# Altium integrated library TI_Logic_Gate.IntLib: 2017 symbols (part 55 of 56)
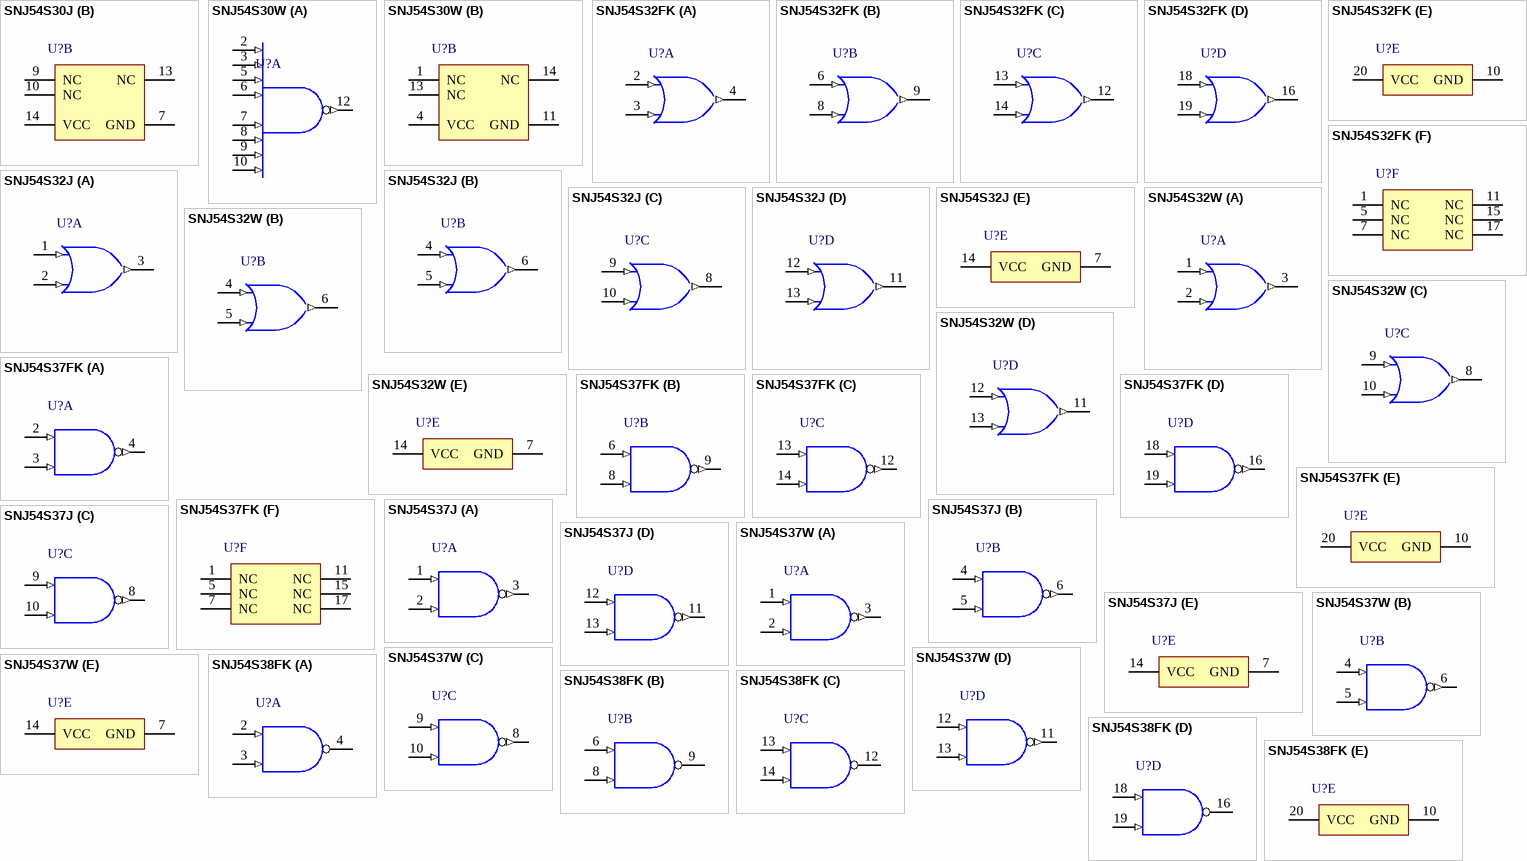
[diagram p279: symbols SNJ54S30J to SNJ54S38FK]

## SNJ54S37W
designator U?
Quadruple 2-Input Positive-NAND Buffers, W0014A, TUBE; Generic Part Number: SN54S37; Manufacturer: Texas Instruments; PartNumber: SNJ54S37W; VCC(Min)(V): 4.5; VCC(Max)(V): 5.5; Output Type: TTL; Rating: Military; Technology Family: S; Schmitt Trigger: No; DatasheetVersion: SDLS103; PackageReference: W0014A; Input Type: TTL; Operating Temperature Range(C): -55 to 125; ComponentLink1Description: Manufacturer URL; ComponentLink1URL: http://www.ti.com/; ComponentLink2Description: Datasheet; ComponentLink2URL: http://www.ti.com/lit/ds/symlink/sn54s37.pdf; ComponentLink3Description: Package Specification; ComponentLink3URL: http://www.ti.com/lit/ml/mcfp002c/mcfp002c.pdf
footprint W0014A_N (CFP, 14-Leads, Body 9.91x6.6mm, Pitch 1.27mm, IPC Medium Density)
footprint W0014A_M (CFP, 14-Leads, Body 9.91x6.6mm, Pitch 1.27mm, IPC Low Density)
footprint W0014A_L (CFP, 14-Leads, Body 9.91x6.6mm, Pitch 1.27mm, IPC High Density)
part A pins: 1 1A (in) "Gate 1 input", 2 1B (in) "Gate 1 input", 3 1Y (out) "Gate 1 output"
part B pins: 4 2A (in) "Gate 2 input", 5 2B (in) "Gate 2 input", 6 2Y (out) "Gate 2 output"
part C pins: 8 3Y (out) "Gate 3 output", 9 3A (in) "Gate 3 input", 10 3B (in) "Gate 3 input"
part D pins: 11 4Y (out) "Gate 4 output", 12 4A (in) "Gate 4 input", 13 4B (in) "Gate 4 input"
part E pins: 7 GND (power) "Ground Pin", 14 VCC (power) "Power Pin"

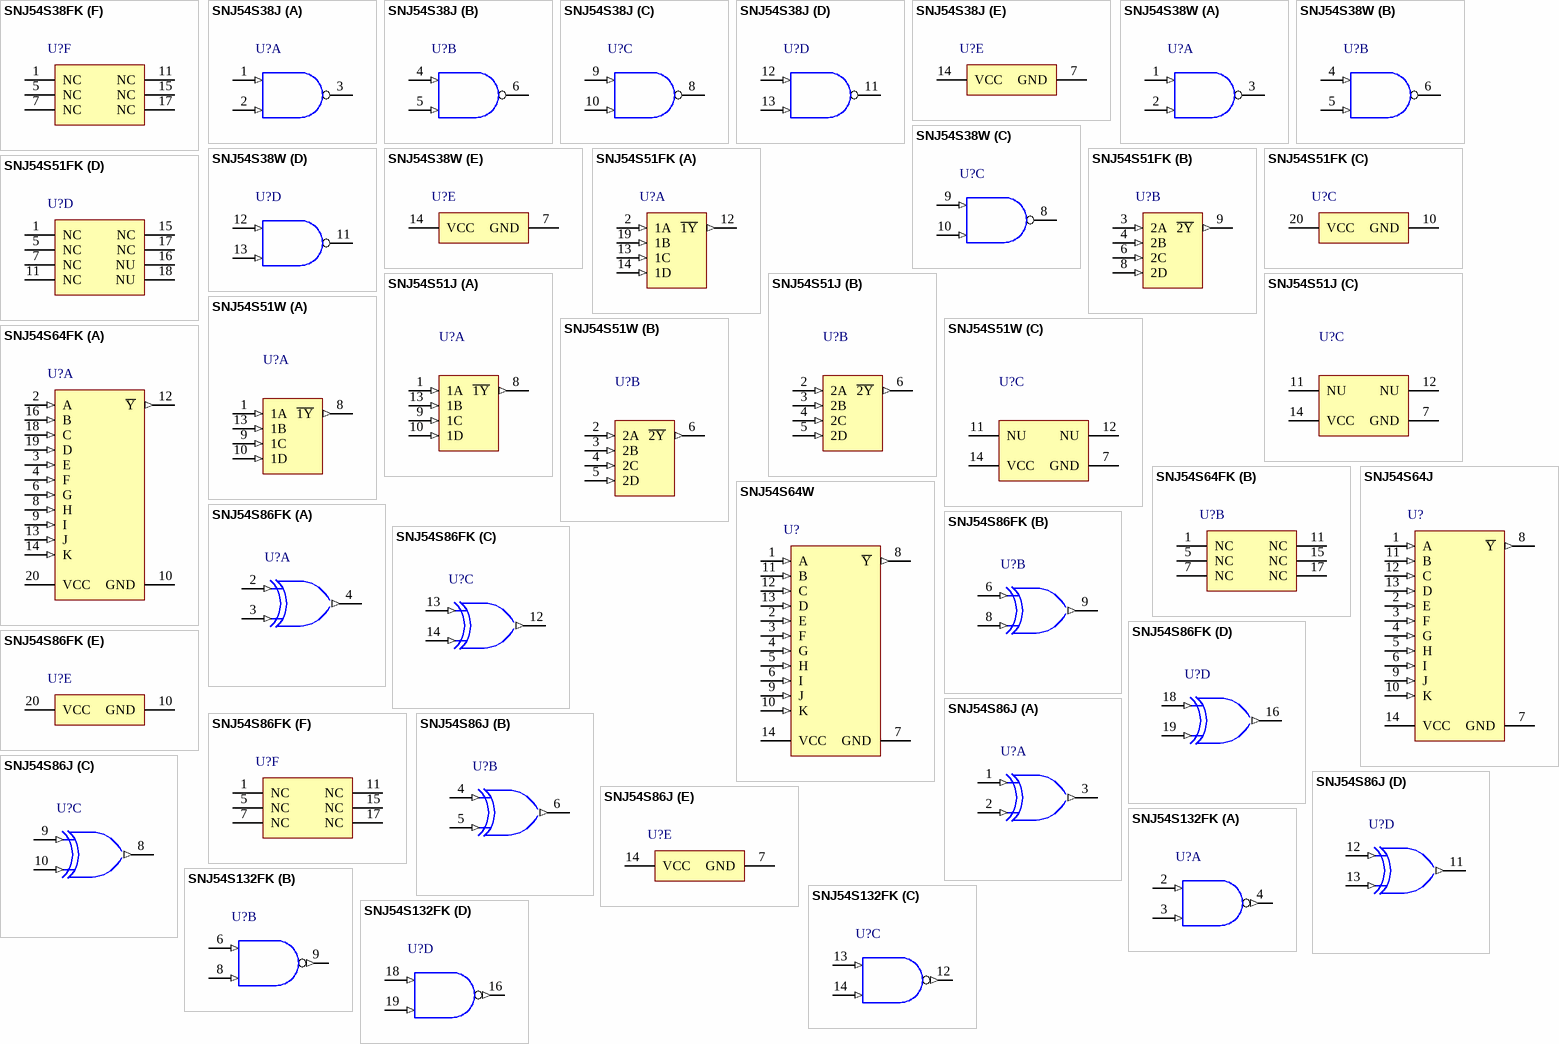
[diagram p223: symbols SNJ54S38FK to SNJ54S132FK]

## SNJ54S38FK
designator U?
Quadruple 2-Input Positive-NAND Buffers With Open-Collector Outp, FK0020A, TUBE; Generic Part Number: SN54S38; Manufacturer: Texas Instruments; PartNumber: SNJ54S38FK; VCC(Min)(V): 4.5; VCC(Max)(V): 5.5; Output Type: TTL; Rating: Military; Technology Family: S; Schmitt Trigger: No; DatasheetVersion: SDLS105; PackageReference: FK0020A; Input Type: TTL; Operating Temperature Range(C): -55 to 125; Code_JEDEC: MS-004; ComponentLink1Description: Manufacturer URL; ComponentLink1URL: http://www.ti.com/; ComponentLink2Description: Datasheet; ComponentLink2URL: http://www.ti.com/lit/ds/symlink/sn54s38.pdf; ComponentLink3Description: Package Specification; ComponentLink3URL: http://www.ti.com/lit/ml/mlcc006d/mlcc006d.pdf
footprint FK0020A_N (LCC, 20-Leads, Body 8.9x8.9mm, Pitch 1.27mm, IPC Medium Density)
footprint FK0020A_M (LCC, 20-Leads, Body 8.9x8.9mm, Pitch 1.27mm, IPC Low Density)
footprint FK0020A_L (LCC, 20-Leads, Body 8.9x8.9mm, Pitch 1.27mm, IPC High Density)
part A pins: 2 1A (in), 3 1B (in), 4 1Y (oc)
part B pins: 6 2A (in), 8 2B (in), 9 2Y (oc)
part C pins: 12 3Y (oc), 13 3A (in), 14 3B (in)
part D pins: 16 4Y (oc), 18 4A (in), 19 4B (in)
part E pins: 10 GND (power), 20 VCC (power)
part F pins: 1 NC, 5 NC, 7 NC, 11 NC, 15 NC, 17 NC

## SNJ54S38J
designator U?
Quadruple 2-Input Positive-NAND Buffers With Open-Collector Outp, J0014A, TUBE; Generic Part Number: SN54S38; Manufacturer: Texas Instruments; PartNumber: SNJ54S38J; VCC(Min)(V): 4.5; VCC(Max)(V): 5.5; Output Type: TTL; Rating: Military; Technology Family: S; Schmitt Trigger: No; DatasheetVersion: SDLS105; PackageReference: J0014A; Input Type: TTL; Operating Temperature Range(C): -55 to 125; ComponentLink1Description: Manufacturer URL; ComponentLink1URL: http://www.ti.com/; ComponentLink2Description: Datasheet; ComponentLink2URL: http://www.ti.com/lit/ds/symlink/sn54s38.pdf; ComponentLink3Description: Package Specification; ComponentLink3URL: http://www.ti.com/lit/ml/mcer002d/mcer002d.pdf
footprint J0014A (DIP, 14-Leads, Body 19.95x7.2mm, Pitch 2.54mm)
part A pins: 1 1A (in), 2 1B (in), 3 1Y (oc)
part B pins: 4 2A (in), 5 2B (in), 6 2Y (oc)
part C pins: 8 3Y (oc), 9 3A (in), 10 3B (in)
part D pins: 11 4Y (oc), 12 4A (in), 13 4B (in)
part E pins: 7 GND (power), 14 VCC (power)

## SNJ54S38W
designator U?
Quadruple 2-Input Positive-NAND Buffers With Open-Collector Outp, W0014A, TUBE; Generic Part Number: SN54S38; Manufacturer: Texas Instruments; PartNumber: SNJ54S38W; VCC(Min)(V): 4.5; VCC(Max)(V): 5.5; Output Type: TTL; Rating: Military; Technology Family: S; Schmitt Trigger: No; DatasheetVersion: SDLS105; PackageReference: W0014A; Input Type: TTL; Operating Temperature Range(C): -55 to 125; ComponentLink1Description: Manufacturer URL; ComponentLink1URL: http://www.ti.com/; ComponentLink2Description: Datasheet; ComponentLink2URL: http://www.ti.com/lit/ds/symlink/sn54s38.pdf; ComponentLink3Description: Package Specification; ComponentLink3URL: http://www.ti.com/lit/ml/mcfp002c/mcfp002c.pdf
footprint W0014A_N (CFP, 14-Leads, Body 9.91x6.6mm, Pitch 1.27mm, IPC Medium Density)
footprint W0014A_M (CFP, 14-Leads, Body 9.91x6.6mm, Pitch 1.27mm, IPC Low Density)
footprint W0014A_L (CFP, 14-Leads, Body 9.91x6.6mm, Pitch 1.27mm, IPC High Density)
part A pins: 1 1A (in), 2 1B (in), 3 1Y (oc)
part B pins: 4 2A (in), 5 2B (in), 6 2Y (oc)
part C pins: 8 3Y (oc), 9 3A (in), 10 3B (in)
part D pins: 11 4Y (oc), 12 4A (in), 13 4B (in)
part E pins: 7 GND (power), 14 VCC (power)

## SNJ54S51FK
designator U?
AND-OR-invert Gates, FK0020A, TUBE; Generic Part Number: SN54S51; Manufacturer: Texas Instruments; PartNumber: SNJ54S51FK; VCC(Min)(V): 4.5; VCC(Max)(V): 5.5; Output Type: TTL; ICC @ Nom Voltage(Max)(mA): 0.008; Bits(#): 2; F @ Nom Voltage(Max)(Mhz): 50; Rating: Military; Technology Family: S; Schmitt Trigger: No; Output Drive (IOL/IOH)(Max)(mA): -0.4/16; tpd @ Nom Voltage(Max)(ns): 22; DatasheetVersion: SDLS113; PackageReference: FK0020A; Input Type: TTL; Operating Temperature Range(C): -55 to 125; Code_JEDEC: MS-004; ComponentLink1Description: Manufacturer URL; ComponentLink1URL: http://www.ti.com/; ComponentLink2Description: Datasheet; ComponentLink2URL: http://www.ti.com/lit/ds/symlink/sn54s51.pdf; ComponentLink3Description: Package Specification; ComponentLink3URL: http://www.ti.com/lit/ml/mlcc006d/mlcc006d.pdf
footprint FK0020A_N (LCC, 20-Leads, Body 8.9x8.9mm, Pitch 1.27mm, IPC Medium Density)
footprint FK0020A_M (LCC, 20-Leads, Body 8.9x8.9mm, Pitch 1.27mm, IPC Low Density)
footprint FK0020A_L (LCC, 20-Leads, Body 8.9x8.9mm, Pitch 1.27mm, IPC High Density)
part A pins: 2 1A (in), 12 ~{1Y} (out), 13 1C (in), 14 1D (in), 19 1B (in)
part B pins: 3 2A (in), 4 2B (in), 6 2C (in), 8 2D (in), 9 ~{2Y} (out)
part C pins: 10 GND (power), 20 VCC (power)
part D pins: 1 NC, 5 NC, 7 NC, 11 NC, 15 NC, 16 NU, 17 NC, 18 NU

## SNJ54S51J
designator U?
AND-OR-invert Gates, J0014A, TUBE; Generic Part Number: SN54S51; Manufacturer: Texas Instruments; PartNumber: SNJ54S51J; VCC(Min)(V): 4.5; VCC(Max)(V): 5.5; Output Type: TTL; ICC @ Nom Voltage(Max)(mA): 0.008; Bits(#): 2; F @ Nom Voltage(Max)(Mhz): 50; Rating: Military; Technology Family: S; Schmitt Trigger: No; Output Drive (IOL/IOH)(Max)(mA): -0.4/16; tpd @ Nom Voltage(Max)(ns): 22; DatasheetVersion: SDLS113; PackageReference: J0014A; Input Type: TTL; Operating Temperature Range(C): -55 to 125; ComponentLink1Description: Manufacturer URL; ComponentLink1URL: http://www.ti.com/; ComponentLink2Description: Datasheet; ComponentLink2URL: http://www.ti.com/lit/ds/symlink/sn54s51.pdf; ComponentLink3Description: Package Specification; ComponentLink3URL: http://www.ti.com/lit/ml/mcer002d/mcer002d.pdf
footprint J0014A (DIP, 14-Leads, Body 19.95x7.2mm, Pitch 2.54mm)
part A pins: 1 1A (in), 8 ~{1Y} (out), 9 1C (in), 10 1D (in), 13 1B (in)
part B pins: 2 2A (in), 3 2B (in), 4 2C (in), 5 2D (in), 6 ~{2Y} (out)
part C pins: 7 GND (power), 11 NU, 12 NU, 14 VCC (power)

## SNJ54S51W
designator U?
AND-OR-invert Gates, W0014A, TUBE; Generic Part Number: SN54S51; Manufacturer: Texas Instruments; PartNumber: SNJ54S51W; VCC(Min)(V): 4.5; VCC(Max)(V): 5.5; Output Type: TTL; ICC @ Nom Voltage(Max)(mA): 0.008; Bits(#): 2; F @ Nom Voltage(Max)(Mhz): 50; Rating: Military; Technology Family: S; Schmitt Trigger: No; Output Drive (IOL/IOH)(Max)(mA): -0.4/16; tpd @ Nom Voltage(Max)(ns): 22; DatasheetVersion: SDLS113; PackageReference: W0014A; Input Type: TTL; Operating Temperature Range(C): -55 to 125; ComponentLink1Description: Manufacturer URL; ComponentLink1URL: http://www.ti.com/; ComponentLink2Description: Datasheet; ComponentLink2URL: http://www.ti.com/lit/ds/symlink/sn54s51.pdf; ComponentLink3Description: Package Specification; ComponentLink3URL: http://www.ti.com/lit/ml/mcfp002c/mcfp002c.pdf
footprint W0014A_N (CFP, 14-Leads, Body 9.91x6.6mm, Pitch 1.27mm, IPC Medium Density)
footprint W0014A_M (CFP, 14-Leads, Body 9.91x6.6mm, Pitch 1.27mm, IPC Low Density)
footprint W0014A_L (CFP, 14-Leads, Body 9.91x6.6mm, Pitch 1.27mm, IPC High Density)
part A pins: 1 1A (in), 8 ~{1Y} (out), 9 1C (in), 10 1D (in), 13 1B (in)
part B pins: 2 2A (in), 3 2B (in), 4 2C (in), 5 2D (in), 6 ~{2Y} (out)
part C pins: 7 GND (power), 11 NU, 12 NU, 14 VCC (power)

## SNJ54S64FK
designator U?
4-2-3-2 Input AND-OR-invert Gates, FK0020A, TUBE; Generic Part Number: SN54S64; Manufacturer: Texas Instruments; PartNumber: SNJ54S64FK; VCC(Min)(V): 4.5; VCC(Max)(V): 5.5; Output Type: TTL; Bits(#): 1; Rating: Military; Technology Family: S; Schmitt Trigger: No; Output Drive (IOL/IOH)(Max)(mA): -0.4/16; DatasheetVersion: SDLS205; PackageReference: FK0020A; Input Type: TTL; Operating Temperature Range(C): -55 to 125; tpd @ Nom Voltage(Max)(ns): 5.5; Code_JEDEC: MS-004; ComponentLink1Description: Manufacturer URL; ComponentLink1URL: http://www.ti.com/; ComponentLink2Description: Datasheet; ComponentLink2URL: http://www.ti.com/lit/ds/symlink/sn54s64.pdf; ComponentLink3Description: Package Specification; ComponentLink3URL: http://www.ti.com/lit/ml/mlcc006d/mlcc006d.pdf
footprint FK0020A_N (LCC, 20-Leads, Body 8.9x8.9mm, Pitch 1.27mm, IPC Medium Density)
footprint FK0020A_M (LCC, 20-Leads, Body 8.9x8.9mm, Pitch 1.27mm, IPC Low Density)
footprint FK0020A_L (LCC, 20-Leads, Body 8.9x8.9mm, Pitch 1.27mm, IPC High Density)
part A pins: 2 A (in), 3 E (in), 4 F (in), 6 G (in), 8 H (in), 9 I (in), 10 GND (power), 12 ~{Y} (out), 13 J (in), 14 K (in), 16 B (in), 18 C (in), 19 D (in), 20 VCC (power)
part B pins: 1 NC, 5 NC, 7 NC, 11 NC, 15 NC, 17 NC

## SNJ54S64J
designator U?
4-2-3-2 Input AND-OR-invert Gates, J0014A, TUBE; Generic Part Number: SN54S64; Manufacturer: Texas Instruments; PartNumber: SNJ54S64J; VCC(Min)(V): 4.5; VCC(Max)(V): 5.5; Output Type: TTL; Bits(#): 1; Rating: Military; Technology Family: S; Schmitt Trigger: No; Output Drive (IOL/IOH)(Max)(mA): -0.4/16; DatasheetVersion: SDLS205; PackageReference: J0014A; Input Type: TTL; Operating Temperature Range(C): -55 to 125; tpd @ Nom Voltage(Max)(ns): 5.5; ComponentLink1Description: Manufacturer URL; ComponentLink1URL: http://www.ti.com/; ComponentLink2Description: Datasheet; ComponentLink2URL: http://www.ti.com/lit/ds/symlink/sn54s64.pdf; ComponentLink3Description: Package Specification; ComponentLink3URL: http://www.ti.com/lit/ml/mcer002d/mcer002d.pdf
footprint J0014A (DIP, 14-Leads, Body 19.95x7.2mm, Pitch 2.54mm)
pins: 1 A (in), 2 E (in), 3 F (in), 4 G (in), 5 H (in), 6 I (in), 7 GND (power), 8 ~{Y} (out), 9 J (in), 10 K (in), 11 B (in), 12 C (in), 13 D (in), 14 VCC (power)

## SNJ54S64W
designator U?
4-2-3-2 Input AND-OR-invert Gates, W0014A, TUBE; Generic Part Number: SN54S64; Manufacturer: Texas Instruments; PartNumber: SNJ54S64W; VCC(Min)(V): 4.5; VCC(Max)(V): 5.5; Output Type: TTL; Bits(#): 1; Rating: Military; Technology Family: S; Schmitt Trigger: No; Output Drive (IOL/IOH)(Max)(mA): -0.4/16; DatasheetVersion: SDLS205; PackageReference: W0014A; Input Type: TTL; Operating Temperature Range(C): -55 to 125; tpd @ Nom Voltage(Max)(ns): 5.5; ComponentLink1Description: Manufacturer URL; ComponentLink1URL: http://www.ti.com/; ComponentLink2Description: Datasheet; ComponentLink2URL: http://www.ti.com/lit/ds/symlink/sn54s64.pdf; ComponentLink3Description: Package Specification; ComponentLink3URL: http://www.ti.com/lit/ml/mcfp002c/mcfp002c.pdf
footprint W0014A_N (CFP, 14-Leads, Body 9.91x6.6mm, Pitch 1.27mm, IPC Medium Density)
footprint W0014A_M (CFP, 14-Leads, Body 9.91x6.6mm, Pitch 1.27mm, IPC Low Density)
footprint W0014A_L (CFP, 14-Leads, Body 9.91x6.6mm, Pitch 1.27mm, IPC High Density)
pins: 1 A (in), 2 E (in), 3 F (in), 4 G (in), 5 H (in), 6 I (in), 7 GND (power), 8 ~{Y} (out), 9 J (in), 10 K (in), 11 B (in), 12 C (in), 13 D (in), 14 VCC (power)

## SNJ54S86FK
designator U?
Quadruple 2-Input Exclusive-OR Gates, FK0020A, TUBE; Generic Part Number: SN54S86; Manufacturer: Texas Instruments; PartNumber: SNJ54S86FK; VCC(Min)(V): 4.5; VCC(Max)(V): 5.5; Output Type: TTL; Rating: Military; Technology Family: S; Schmitt Trigger: No; DatasheetVersion: SDLS124; PackageReference: FK0020A; Input Type: TTL; Operating Temperature Range(C): -55 to 125; Code_JEDEC: MS-004; ComponentLink1Description: Manufacturer URL; ComponentLink1URL: http://www.ti.com/; ComponentLink2Description: Datasheet; ComponentLink2URL: http://www.ti.com/lit/ds/symlink/sn54s86.pdf; ComponentLink3Description: Package Specification; ComponentLink3URL: http://www.ti.com/lit/ml/mlcc006d/mlcc006d.pdf
footprint FK0020A_N (LCC, 20-Leads, Body 8.9x8.9mm, Pitch 1.27mm, IPC Medium Density)
footprint FK0020A_M (LCC, 20-Leads, Body 8.9x8.9mm, Pitch 1.27mm, IPC Low Density)
footprint FK0020A_L (LCC, 20-Leads, Body 8.9x8.9mm, Pitch 1.27mm, IPC High Density)
part A pins: 2 1A (in), 3 1B (in), 4 1Y (out)
part B pins: 6 2A (in), 8 2B (in), 9 2Y (out)
part C pins: 12 3Y (out), 13 3A (in), 14 3B (in)
part D pins: 16 4Y (out), 18 4A (in), 19 4B (in)
part E pins: 10 GND (power), 20 VCC (power)
part F pins: 1 NC, 5 NC, 7 NC, 11 NC, 15 NC, 17 NC

## SNJ54S86J
designator U?
Quadruple 2-Input Exclusive-OR Gates, J0014A, TUBE; Generic Part Number: SN54S86; Manufacturer: Texas Instruments; PartNumber: SNJ54S86J; VCC(Min)(V): 4.5; VCC(Max)(V): 5.5; Output Type: TTL; Rating: Military; Technology Family: S; Schmitt Trigger: No; DatasheetVersion: SDLS124; PackageReference: J0014A; Input Type: TTL; Operating Temperature Range(C): -55 to 125; ComponentLink1Description: Manufacturer URL; ComponentLink1URL: http://www.ti.com/; ComponentLink2Description: Datasheet; ComponentLink2URL: http://www.ti.com/lit/ds/symlink/sn54s86.pdf
footprint J0014A (DIP, 14-Leads, Body 19.95x7.2mm, Pitch 2.54mm)
part A pins: 1 1A (in), 2 1B (in), 3 1Y (out)
part B pins: 4 2A (in), 5 2B (in), 6 2Y (out)
part C pins: 8 3Y (out), 9 3A (in), 10 3B (in)
part D pins: 11 4Y (out), 12 4A (in), 13 4B (in)
part E pins: 7 GND (power), 14 VCC (power)

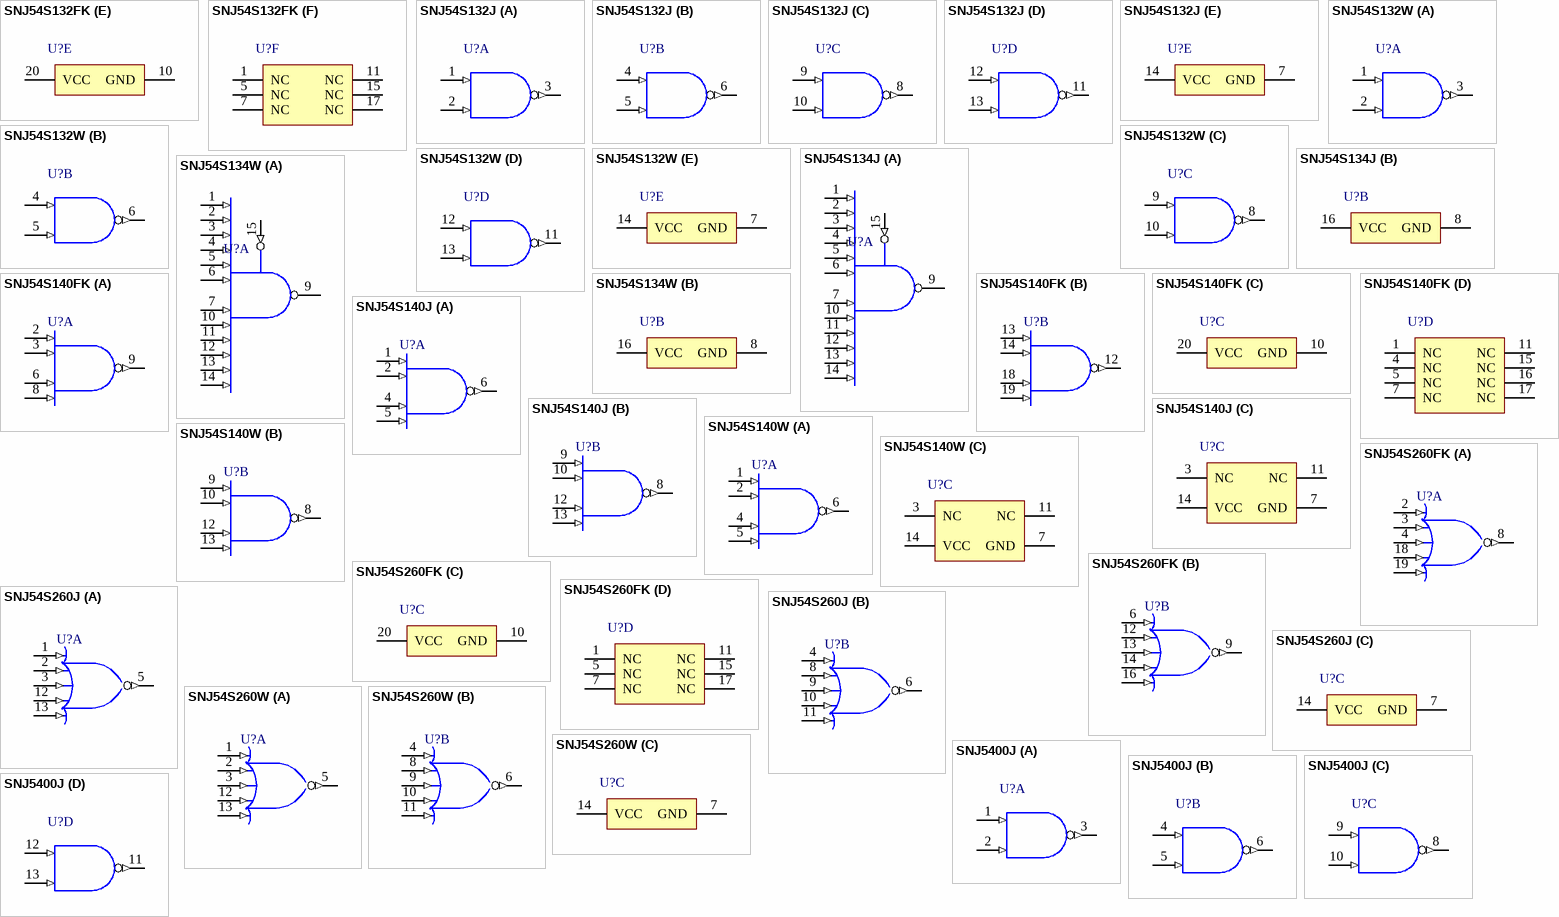
[diagram p224: symbols SNJ54S132FK to SNJ5400J]

## SNJ54S132FK
designator U?
Quadruple 2-Input Positive-NAND Schmitt Triggers, FK0020A, TUBE; Generic Part Number: SN54S132; Manufacturer: Texas Instruments; PartNumber: SNJ54S132FK; VCC(Min)(V): 4.5; VCC(Max)(V): 5.5; Output Type: TTL; Rating: Military; Technology Family: S; Schmitt Trigger: No; DatasheetVersion: SDLS047; PackageReference: FK0020A; Input Type: TTL; Operating Temperature Range(C): -55 to 125; Code_JEDEC: MS-004; ComponentLink1Description: Manufacturer URL; ComponentLink1URL: http://www.ti.com/; ComponentLink2Description: Datasheet; ComponentLink2URL: http://www.ti.com/lit/ds/symlink/sn54s132.pdf; ComponentLink3Description: Package Specification; ComponentLink3URL: http://www.ti.com/lit/ml/mlcc006d/mlcc006d.pdf
footprint FK0020A_N (LCC, 20-Leads, Body 8.9x8.9mm, Pitch 1.27mm, IPC Medium Density)
footprint FK0020A_M (LCC, 20-Leads, Body 8.9x8.9mm, Pitch 1.27mm, IPC Low Density)
footprint FK0020A_L (LCC, 20-Leads, Body 8.9x8.9mm, Pitch 1.27mm, IPC High Density)
part A pins: 2 1A (in), 3 1B (in), 4 1Y (out)
part B pins: 6 2A (in), 8 2B (in), 9 2Y (out)
part C pins: 12 3Y (out), 13 3A (in), 14 3B (in)
part D pins: 16 4Y (out), 18 4A (in), 19 4B (in)
part E pins: 10 GND (power), 20 VCC (power)
part F pins: 1 NC, 5 NC, 7 NC, 11 NC, 15 NC, 17 NC

## SNJ54S132J
designator U?
Quadruple 2-Input Positive-NAND Schmitt Triggers, J0014A, TUBE; Generic Part Number: SN54S132; Manufacturer: Texas Instruments; PartNumber: SNJ54S132J; VCC(Min)(V): 4.5; VCC(Max)(V): 5.5; Output Type: TTL; Rating: Military; Technology Family: S; Schmitt Trigger: No; DatasheetVersion: SDLS047; PackageReference: J0014A; Input Type: TTL; Operating Temperature Range(C): -55 to 125; ComponentLink1Description: Manufacturer URL; ComponentLink1URL: http://www.ti.com/; ComponentLink2Description: Datasheet; ComponentLink2URL: http://www.ti.com/lit/ds/symlink/sn54s132.pdf; ComponentLink3Description: Package Specification; ComponentLink3URL: http://www.ti.com/lit/ml/mcer002d/mcer002d.pdf
footprint J0014A (DIP, 14-Leads, Body 19.95x7.2mm, Pitch 2.54mm)
part A pins: 1 1A (in) "Gate 1 input", 2 1B (in) "Gate 1 input", 3 1Y (out) "Gate 1 output"
part B pins: 4 2A (in) "Gate 2 input", 5 2B (in) "Gate 2 input", 6 2Y (out) "Gate 2 output"
part C pins: 8 3Y (out) "Gate 3 output", 9 3A (in) "Gate 3 input", 10 3B (in) "Gate 3 input"
part D pins: 11 4Y (out) "Gate 4 output", 12 4A (in) "Gate 4 input", 13 4B (in) "Gate 4 input"
part E pins: 7 GND (power) "Ground Pin", 14 VCC (power) "Power Pin"

## SNJ54S132W
designator U?
Quadruple 2-Input Positive-NAND Schmitt Triggers, W0014A, TUBE; Generic Part Number: SN54S132; Manufacturer: Texas Instruments; PartNumber: SNJ54S132W; VCC(Min)(V): 4.5; VCC(Max)(V): 5.5; Output Type: TTL; Rating: Military; Technology Family: S; Schmitt Trigger: No; DatasheetVersion: SDLS047; PackageReference: W0014A; Input Type: TTL; Operating Temperature Range(C): -55 to 125; ComponentLink1Description: Manufacturer URL; ComponentLink1URL: http://www.ti.com/; ComponentLink2Description: Datasheet; ComponentLink2URL: http://www.ti.com/lit/ds/symlink/sn54s132.pdf; ComponentLink3Description: Package Specification; ComponentLink3URL: http://www.ti.com/lit/ml/mcfp002c/mcfp002c.pdf
footprint W0014A_N (CFP, 14-Leads, Body 9.91x6.6mm, Pitch 1.27mm, IPC Medium Density)
footprint W0014A_M (CFP, 14-Leads, Body 9.91x6.6mm, Pitch 1.27mm, IPC Low Density)
footprint W0014A_L (CFP, 14-Leads, Body 9.91x6.6mm, Pitch 1.27mm, IPC High Density)
part A pins: 1 1A (in) "Gate 1 input", 2 1B (in) "Gate 1 input", 3 1Y (out) "Gate 1 output"
part B pins: 4 2A (in) "Gate 2 input", 5 2B (in) "Gate 2 input", 6 2Y (out) "Gate 2 output"
part C pins: 8 3Y (out) "Gate 3 output", 9 3A (in) "Gate 3 input", 10 3B (in) "Gate 3 input"
part D pins: 11 4Y (out) "Gate 4 output", 12 4A (in) "Gate 4 input", 13 4B (in) "Gate 4 input"
part E pins: 7 GND (power) "Ground Pin", 14 VCC (power) "Power Pin"

## SNJ54S134J
designator U?
12-Input Positive-NAND Gates With 3-State Outputs, J0016A, TUBE; Generic Part Number: SN54S134; Manufacturer: Texas Instruments; PartNumber: SNJ54S134J; VCC(Min)(V): 4.5; VCC(Max)(V): 5.5; Output Type: TTL; Rating: Military; Technology Family: S; Schmitt Trigger: No; DatasheetVersion: SDLS203; PackageReference: J0016A; Input Type: TTL; Operating Temperature Range(C): -55 to 125; ComponentLink1Description: Manufacturer URL; ComponentLink1URL: http://www.ti.com/; ComponentLink2Description: Datasheet; ComponentLink2URL: http://www.ti.com/lit/ds/symlink/sn54s134.pdf; ComponentLink3Description: Package Specification; ComponentLink3URL: http://www.ti.com/lit/ml/mcer002d/mcer002d.pdf
footprint J0016A (DIP, 16-Leads, Body 21.35x7.2mm, Pitch 2.54mm)
part A pins: 1 A (in), 2 B (in), 3 C (in), 4 D (in), 5 E (in), 6 F (in), 7 G (in), 9 Y (hiz), 10 H (in), 11 I (in), 12 J (in), 13 K (in), 14 L (in), 15 ~{OC} (in)
part B pins: 8 GND (power), 16 VCC (power)

## SNJ54S134W
designator U?
12-Input Positive-NAND Gates With 3-State Outputs, W0016A, TUBE; Generic Part Number: SN54S134; Manufacturer: Texas Instruments; PartNumber: SNJ54S134W; VCC(Min)(V): 4.5; VCC(Max)(V): 5.5; Output Type: TTL; Rating: Military; Technology Family: S; Schmitt Trigger: No; DatasheetVersion: SDLS203; PackageReference: W0016A; Input Type: TTL; Operating Temperature Range(C): -55 to 125; ComponentLink1Description: Manufacturer URL; ComponentLink1URL: http://www.ti.com/; ComponentLink2Description: Datasheet; ComponentLink2URL: http://www.ti.com/lit/ds/symlink/sn54s134.pdf; ComponentLink3Description: Package Specification; ComponentLink3URL: http://www.ti.com/lit/ml/mcfp004c/mcfp004c.pdf
footprint W0016A_N (CFP, 16-Leads, Body 10.92x7.24mm, Pitch 1.27mm, IPC Medium Density)
footprint W0016A_M (CFP, 16-Leads, Body 10.92x7.24mm, Pitch 1.27mm, IPC Low Density)
footprint W0016A_L (CFP, 16-Leads, Body 10.92x7.24mm, Pitch 1.27mm, IPC High Density)
part A pins: 1 A (in), 2 B (in), 3 C (in), 4 D (in), 5 E (in), 6 F (in), 7 G (in), 9 Y (hiz), 10 H (in), 11 I (in), 12 J (in), 13 K (in), 14 L (in), 15 ~{OC} (in)
part B pins: 8 GND (power), 16 VCC (power)

## SNJ54S140FK
designator U?
Dual 4-Input Positive-NAND 50-Ohm Line Drivers, FK0020A, TUBE; Generic Part Number: SN54S140; Manufacturer: Texas Instruments; PartNumber: SNJ54S140FK; VCC(Min)(V): 4.5; VCC(Max)(V): 5.5; Output Type: TTL; Rating: Military; Technology Family: S; Schmitt Trigger: No; DatasheetVersion: SDLS210; PackageReference: FK0020A; Input Type: TTL; Operating Temperature Range(C): -55 to 125; Code_JEDEC: MS-004; ComponentLink1Description: Manufacturer URL; ComponentLink1URL: http://www.ti.com/; ComponentLink2Description: Datasheet; ComponentLink2URL: http://www.ti.com/lit/ds/symlink/sn54s140.pdf; ComponentLink3Description: Package Specification; ComponentLink3URL: http://www.ti.com/lit/ml/mlcc006d/mlcc006d.pdf
footprint FK0020A_N (LCC, 20-Leads, Body 8.9x8.9mm, Pitch 1.27mm, IPC Medium Density)
footprint FK0020A_M (LCC, 20-Leads, Body 8.9x8.9mm, Pitch 1.27mm, IPC Low Density)
footprint FK0020A_L (LCC, 20-Leads, Body 8.9x8.9mm, Pitch 1.27mm, IPC High Density)
part A pins: 2 1A (in), 3 1B (in), 6 1C (in), 8 1D (in), 9 1Y (out)
part B pins: 12 2Y (out), 13 2A (in), 14 2B (in), 18 2C (in), 19 2D (in)
part C pins: 10 GND (power), 20 VCC (power)
part D pins: 1 NC, 4 NC, 5 NC, 7 NC, 11 NC, 15 NC, 16 NC, 17 NC

## SNJ54S140J
designator U?
Dual 4-Input Positive-NAND 50-Ohm Line Drivers, J0014A, TUBE; Generic Part Number: SN54S140; Manufacturer: Texas Instruments; PartNumber: SNJ54S140J; VCC(Min)(V): 4.5; VCC(Max)(V): 5.5; Output Type: TTL; Rating: Military; Technology Family: S; Schmitt Trigger: No; DatasheetVersion: SDLS210; PackageReference: J0014A; Input Type: TTL; Operating Temperature Range(C): -55 to 125; ComponentLink1Description: Manufacturer URL; ComponentLink1URL: http://www.ti.com/; ComponentLink2Description: Datasheet; ComponentLink2URL: http://www.ti.com/lit/ds/symlink/sn54s140.pdf; ComponentLink3Description: Package Specification; ComponentLink3URL: http://www.ti.com/lit/ml/mcer002d/mcer002d.pdf
footprint J0014A (DIP, 14-Leads, Body 19.95x7.2mm, Pitch 2.54mm)
part A pins: 1 1A (in), 2 1B (in), 4 1C (in), 5 1D (in), 6 1Y (out)
part B pins: 8 2Y (out), 9 2A (in), 10 2B (in), 12 2C (in), 13 2D (in)
part C pins: 3 NC, 7 GND (power), 11 NC, 14 VCC (power)

## SNJ54S140W
designator U?
Dual 4-Input Positive-NAND 50-Ohm Line Drivers, W0014A, TUBE; Generic Part Number: SN54S140; Manufacturer: Texas Instruments; PartNumber: SNJ54S140W; VCC(Min)(V): 4.5; VCC(Max)(V): 5.5; Output Type: TTL; Rating: Military; Technology Family: S; Schmitt Trigger: No; DatasheetVersion: SDLS210; PackageReference: W0014A; Input Type: TTL; Operating Temperature Range(C): -55 to 125; ComponentLink1Description: Manufacturer URL; ComponentLink1URL: http://www.ti.com/; ComponentLink2Description: Datasheet; ComponentLink2URL: http://www.ti.com/lit/ds/symlink/sn54s140.pdf; ComponentLink3Description: Package Specification; ComponentLink3URL: http://www.ti.com/lit/ml/mcfp002c/mcfp002c.pdf
footprint W0014A_N (CFP, 14-Leads, Body 9.91x6.6mm, Pitch 1.27mm, IPC Medium Density)
footprint W0014A_M (CFP, 14-Leads, Body 9.91x6.6mm, Pitch 1.27mm, IPC Low Density)
footprint W0014A_L (CFP, 14-Leads, Body 9.91x6.6mm, Pitch 1.27mm, IPC High Density)
part A pins: 1 1A (in), 2 1B (in), 4 1C (in), 5 1D (in), 6 1Y (out)
part B pins: 8 2Y (out), 9 2A (in), 10 2B (in), 12 2C (in), 13 2D (in)
part C pins: 3 NC, 7 GND (power), 11 NC, 14 VCC (power)

## SNJ54S260FK
designator U?
Dual 5-input Positive-NOR Gates, FK0020A, TUBE; Generic Part Number: SN54S260; Manufacturer: Texas Instruments; PartNumber: SNJ54S260FK; VCC(Min)(V): 4.5; VCC(Max)(V): 5.5; Output Type: TTL; Bits(#): 2; Rating: Military; tpd @ Nom Voltage(Max)(ns): 6; DatasheetVersion: SDLS208; PackageReference: FK0020A; Input Type: TTL; Operating Temperature Range(C): -55 to 125; Code_JEDEC: MS-004; ComponentLink1Description: Manufacturer URL; ComponentLink1URL: http://www.ti.com/; ComponentLink2Description: Datasheet; ComponentLink2URL: http://www.ti.com/lit/ds/symlink/sn54s260.pdf; ComponentLink3Description: Package Specification; ComponentLink3URL: http://www.ti.com/lit/ml/mlcc006d/mlcc006d.pdf
footprint FK0020A_N (LCC, 20-Leads, Body 8.9x8.9mm, Pitch 1.27mm, IPC Medium Density)
footprint FK0020A_M (LCC, 20-Leads, Body 8.9x8.9mm, Pitch 1.27mm, IPC Low Density)
footprint FK0020A_L (LCC, 20-Leads, Body 8.9x8.9mm, Pitch 1.27mm, IPC High Density)
part A pins: 2 1A (in), 3 1B (in), 4 1C (in), 8 1Y (out), 18 1D (in), 19 1E (in)
part B pins: 6 2A (in), 9 2Y (out), 12 2B (in), 13 2C (in), 14 2D (in), 16 2E (in)
part C pins: 10 GND (power), 20 VCC (power)
part D pins: 1 NC, 5 NC, 7 NC, 11 NC, 15 NC, 17 NC

## SNJ54S260J
designator U?
Dual 5-input Positive-NOR Gates, J0014A, TUBE; Generic Part Number: SN54S260; Manufacturer: Texas Instruments; PartNumber: SNJ54S260J; VCC(Min)(V): 4.5; VCC(Max)(V): 5.5; Output Type: TTL; Bits(#): 2; Rating: Military; tpd @ Nom Voltage(Max)(ns): 6; DatasheetVersion: SDLS208; PackageReference: J0014A; Input Type: TTL; Operating Temperature Range(C): -55 to 125; ComponentLink1Description: Manufacturer URL; ComponentLink1URL: http://www.ti.com/; ComponentLink2Description: Datasheet; ComponentLink2URL: http://www.ti.com/lit/ds/symlink/sn54s260.pdf; ComponentLink3Description: Package Specification; ComponentLink3URL: http://www.ti.com/lit/ml/mcer002d/mcer002d.pdf
footprint J0014A (DIP, 14-Leads, Body 19.95x7.2mm, Pitch 2.54mm)
part A pins: 1 1A (in), 2 1B (in), 3 1C (in), 5 1Y (out), 12 1D (in), 13 1E (in)
part B pins: 4 2A (in), 6 2Y (out), 8 2B (in), 9 2C (in), 10 2D (in), 11 2E (in)
part C pins: 7 GND (power), 14 VCC (power)

## SNJ54S260W
designator U?
Dual 5-input Positive-NOR Gates, W0014A, TUBE; Generic Part Number: SN54S260; Manufacturer: Texas Instruments; PartNumber: SNJ54S260W; VCC(Min)(V): 4.5; VCC(Max)(V): 5.5; Output Type: TTL; Bits(#): 2; Rating: Military; tpd @ Nom Voltage(Max)(ns): 6; DatasheetVersion: SDLS208; PackageReference: W0014A; Input Type: TTL; Operating Temperature Range(C): -55 to 125; ComponentLink1Description: Manufacturer URL; ComponentLink1URL: http://www.ti.com/; ComponentLink2Description: Datasheet; ComponentLink2URL: http://www.ti.com/lit/ds/symlink/sn54s260.pdf; ComponentLink3Description: Package Specification; ComponentLink3URL: http://www.ti.com/lit/ml/mcfp002c/mcfp002c.pdf
footprint W0014A_N (CFP, 14-Leads, Body 9.91x6.6mm, Pitch 1.27mm, IPC Medium Density)
footprint W0014A_M (CFP, 14-Leads, Body 9.91x6.6mm, Pitch 1.27mm, IPC Low Density)
footprint W0014A_L (CFP, 14-Leads, Body 9.91x6.6mm, Pitch 1.27mm, IPC High Density)
part A pins: 1 1A (in), 2 1B (in), 3 1C (in), 5 1Y (out), 12 1D (in), 13 1E (in)
part B pins: 4 2A (in), 6 2Y (out), 8 2B (in), 9 2C (in), 10 2D (in), 11 2E (in)
part C pins: 7 GND (power), 14 VCC (power)

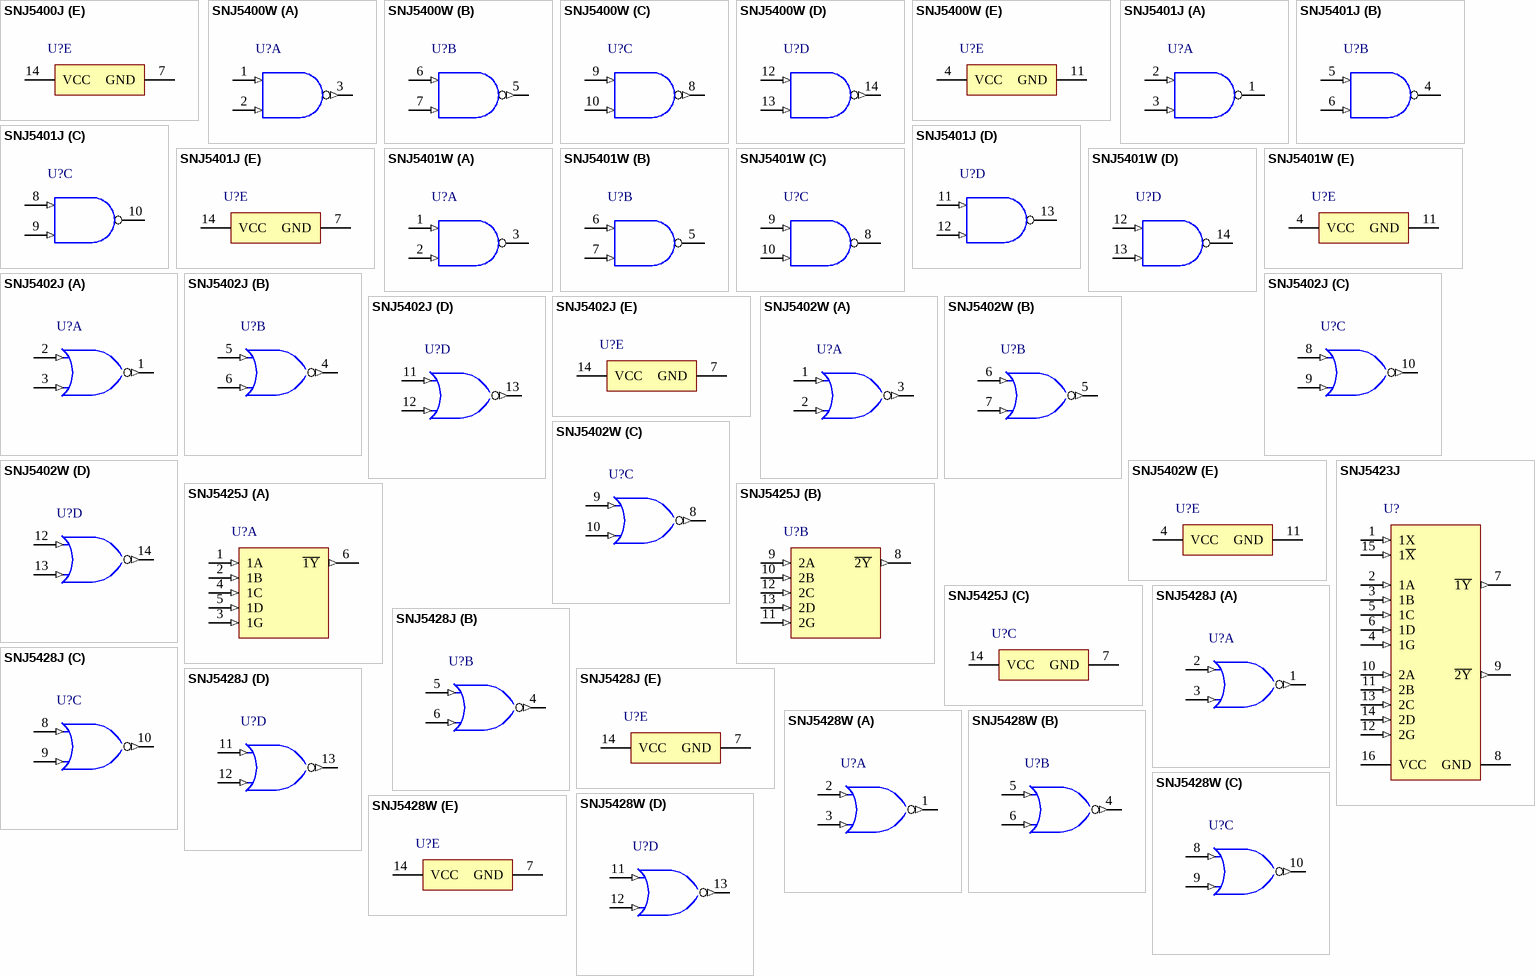
[diagram p225: symbols SNJ5400J to SNJ5428W]

## SNJ5400J
designator U?
Quadruple 2-Input Positive-NAND Gates, J0014A, TUBE; Generic Part Number: SN5400; Manufacturer: Texas Instruments; PartNumber: SNJ5400J; VCC(Min)(V): 4.5; VCC(Max)(V): 5.5; Output Type: TTL; Rating: Military; Schmitt Trigger: No; DatasheetVersion: SDLS025B; PackageReference: J0014A; Input Type: TTL; Operating Temperature Range(C): -55 to 125; Technology Family: TTL; ComponentLink1Description: Manufacturer URL; ComponentLink1URL: http://www.ti.com/; ComponentLink2Description: Datasheet; ComponentLink2URL: http://www.ti.com/lit/ds/symlink/sn5400.pdf; ComponentLink3Description: Package Specification; ComponentLink3URL: http://www.ti.com/lit/ml/mcer002d/mcer002d.pdf
footprint J0014A (DIP, 14-Leads, Body 19.95x7.2mm, Pitch 2.54mm)
part A pins: 1 1A (in) "Gate 1 input", 2 1B (in) "Gate 1 input", 3 1Y (out) "Gate 1 output"
part B pins: 4 2A (in) "Gate 2 input", 5 2B (in) "Gate 2 input", 6 2Y (out) "Gate 2 output"
part C pins: 8 3Y (out) "Gate 3 output", 9 3A (in) "Gate 3 input", 10 3B (in) "Gate 3 input"
part D pins: 11 4Y (out) "Gate 4 output", 12 4A (in) "Gate 4 input", 13 4B (in) "Gate 4 input"
part E pins: 7 GND (power) "Ground Pin", 14 VCC (power) "Power Pin"

## SNJ5400W
designator U?
Quadruple 2-Input Positive-NAND Gates, W0014A, TUBE; Generic Part Number: SN5400; Manufacturer: Texas Instruments; PartNumber: SNJ5400W; VCC(Min)(V): 4.5; VCC(Max)(V): 5.5; Output Type: TTL; Rating: Military; Schmitt Trigger: No; DatasheetVersion: SDLS025B; PackageReference: W0014A; Input Type: TTL; Operating Temperature Range(C): -55 to 125; Technology Family: TTL; ComponentLink1Description: Manufacturer URL; ComponentLink1URL: http://www.ti.com/; ComponentLink2Description: Datasheet; ComponentLink2URL: http://www.ti.com/lit/ds/symlink/sn5400.pdf; ComponentLink3Description: Package Specification; ComponentLink3URL: http://www.ti.com/lit/ml/mcfp002c/mcfp002c.pdf
footprint W0014A_N (CFP, 14-Leads, Body 9.91x6.6mm, Pitch 1.27mm, IPC Medium Density)
footprint W0014A_M (CFP, 14-Leads, Body 9.91x6.6mm, Pitch 1.27mm, IPC Low Density)
footprint W0014A_L (CFP, 14-Leads, Body 9.91x6.6mm, Pitch 1.27mm, IPC High Density)
part A pins: 1 1A (in), 2 1B (in), 3 1Y (out)
part B pins: 5 2Y (out), 6 2A (in), 7 2B (in)
part C pins: 8 3Y (out), 9 3A (in), 10 3B (in)
part D pins: 12 4A (in), 13 4B (in), 14 4Y (out)
part E pins: 4 VCC (power), 11 GND (power)

## SNJ5401J
designator U?
Quadruple 2-Input Positive-NAND Gates With Open-Collector Output, J0014A, TUBE; Generic Part Number: SN5401; Manufacturer: Texas Instruments; PartNumber: SNJ5401J; VCC(Min)(V): 4.5; VCC(Max)(V): 5.5; Output Type: TTL; Rating: Military; Schmitt Trigger: No; DatasheetVersion: SDLS026; PackageReference: J0014A; Input Type: TTL; Operating Temperature Range(C): -55 to 125; Technology Family: TTL; ComponentLink1Description: Manufacturer URL; ComponentLink1URL: http://www.ti.com/; ComponentLink2Description: Datasheet; ComponentLink2URL: http://www.ti.com/lit/ds/symlink/sn5401.pdf; ComponentLink3Description: Package Specification; ComponentLink3URL: http://www.ti.com/lit/ml/mcer002d/mcer002d.pdf
footprint J0014A (DIP, 14-Leads, Body 19.95x7.2mm, Pitch 2.54mm)
part A pins: 1 1Y (oc), 2 1A (in), 3 1B (in)
part B pins: 4 2Y (oc), 5 2A (in), 6 2B (in)
part C pins: 8 3A (in), 9 3B (in), 10 3Y (oc)
part D pins: 11 4A (in), 12 4B (in), 13 4Y (oc)
part E pins: 7 GND (power), 14 VCC (power)

## SNJ5401W
designator U?
Quadruple 2-Input Positive-NAND Gates With Open-Collector Output, W0014A, TUBE; Generic Part Number: SN5401; Manufacturer: Texas Instruments; PartNumber: SNJ5401W; VCC(Min)(V): 4.5; VCC(Max)(V): 5.5; Output Type: TTL; Rating: Military; Schmitt Trigger: No; DatasheetVersion: SDLS026; PackageReference: W0014A; Input Type: TTL; Operating Temperature Range(C): -55 to 125; Technology Family: TTL; ComponentLink1Description: Manufacturer URL; ComponentLink1URL: http://www.ti.com/; ComponentLink2Description: Datasheet; ComponentLink2URL: http://www.ti.com/lit/ds/symlink/sn5401.pdf; ComponentLink3Description: Package Specification; ComponentLink3URL: http://www.ti.com/lit/ml/mcfp002c/mcfp002c.pdf
footprint W0014A_N (CFP, 14-Leads, Body 9.91x6.6mm, Pitch 1.27mm, IPC Medium Density)
footprint W0014A_M (CFP, 14-Leads, Body 9.91x6.6mm, Pitch 1.27mm, IPC Low Density)
footprint W0014A_L (CFP, 14-Leads, Body 9.91x6.6mm, Pitch 1.27mm, IPC High Density)
part A pins: 1 1A (in), 2 1B (in), 3 1Y (oc)
part B pins: 5 2Y (oc), 6 2A (in), 7 2B (in)
part C pins: 8 3Y (oc), 9 3A (in), 10 3B (in)
part D pins: 12 4A (in), 13 4B (in), 14 4Y (oc)
part E pins: 4 VCC (power), 11 GND (power)

## SNJ5402J
designator U?
Quadruple 2-Input Positive-NOR Gates, J0014A, TUBE; Generic Part Number: SN5402; Manufacturer: Texas Instruments; PartNumber: SNJ5402J; VCC(Min)(V): 4.5; VCC(Max)(V): 5.5; Output Type: TTL; Bits(#): 4; Rating: Military; tpd @ Nom Voltage(Max)(ns): 22; DatasheetVersion: SDLS027; PackageReference: J0014A; Input Type: TTL; Operating Temperature Range(C): -55 to 125; ComponentLink1Description: Manufacturer URL; ComponentLink1URL: http://www.ti.com/; ComponentLink2Description: Datasheet; ComponentLink2URL: http://www.ti.com/lit/ds/symlink/sn5402.pdf; ComponentLink3Description: Package Specification; ComponentLink3URL: http://www.ti.com/lit/ml/mcer002d/mcer002d.pdf
footprint J0014A (DIP, 14-Leads, Body 19.95x7.2mm, Pitch 2.54mm)
part A pins: 1 1Y (out) "1Y output", 2 1A (in) "1A input", 3 1B (in) "1B input"
part B pins: 4 2Y (out) "2Y output", 5 2A (in) "2A input", 6 2B (in) "2B input"
part C pins: 8 3A (in) "3A input", 9 3B (in) "3B input", 10 3Y (out) "3Y output"
part D pins: 11 4A (in) "4A input", 12 4B (in) "4B input", 13 4Y (out) "4Y output"
part E pins: 7 GND (power), 14 VCC (power)

## SNJ5402W
designator U?
Quadruple 2-Input Positive-NOR Gates, W0014A, TUBE; Generic Part Number: SN5402; Manufacturer: Texas Instruments; PartNumber: SNJ5402W; VCC(Min)(V): 4.5; VCC(Max)(V): 5.5; Output Type: TTL; Bits(#): 4; Rating: Military; tpd @ Nom Voltage(Max)(ns): 22; DatasheetVersion: SDLS027; PackageReference: W0014A; Input Type: TTL; Operating Temperature Range(C): -55 to 125; ComponentLink1Description: Manufacturer URL; ComponentLink1URL: http://www.ti.com/; ComponentLink2Description: Datasheet; ComponentLink2URL: http://www.ti.com/lit/ds/symlink/sn5402.pdf; ComponentLink3Description: Package Specification; ComponentLink3URL: http://www.ti.com/lit/ml/mcfp002c/mcfp002c.pdf
footprint W0014A_N (CFP, 14-Leads, Body 9.91x6.6mm, Pitch 1.27mm, IPC Medium Density)
footprint W0014A_M (CFP, 14-Leads, Body 9.91x6.6mm, Pitch 1.27mm, IPC Low Density)
footprint W0014A_L (CFP, 14-Leads, Body 9.91x6.6mm, Pitch 1.27mm, IPC High Density)
part A pins: 1 1A (in), 2 1B (in), 3 1Y (out)
part B pins: 5 2Y (out), 6 2A (in), 7 2B (in)
part C pins: 8 3Y (out), 9 3A (in), 10 3B (in)
part D pins: 12 4A (in), 13 4B (in), 14 4Y (out)
part E pins: 4 VCC (power), 11 GND (power)

## SNJ5423J
designator U?
Dual 4-Input NOR Gates With Strobe, J0016A, TUBE; Generic Part Number: SN5423; Manufacturer: Texas Instruments; PartNumber: SNJ5423J; VCC(Min)(V): 4.5; VCC(Max)(V): 5.5; Output Type: TTL; Bits(#): 2; Rating: Military; tpd @ Nom Voltage(Max)(ns): 22; DatasheetVersion: SDLS082; PackageReference: J0016A; Input Type: TTL; Operating Temperature Range(C): -55 to 125; ComponentLink1Description: Manufacturer URL; ComponentLink1URL: http://www.ti.com/; ComponentLink2Description: Datasheet; ComponentLink2URL: http://www.ti.com/lit/ds/symlink/sn5423.pdf; ComponentLink3Description: Package Specification; ComponentLink3URL: http://www.ti.com/lit/ml/mcer002d/mcer002d.pdf
footprint J0016A (DIP, 16-Leads, Body 21.35x7.2mm, Pitch 2.54mm)
pins: 1 1X (in), 2 1A (in), 3 1B (in), 4 1G (in), 5 1C (in), 6 1D (in), 7 ~{1Y} (out), 8 GND (power), 9 ~{2Y} (out), 10 2A (in), 11 2B (in), 12 2G (in), 13 2C (in), 14 2D (in), 15 1~{X} (in), 16 VCC (power)

## SNJ5425J
designator U?
Dual 4-Input NOR Gates With Strobe, J0014A, TUBE; Generic Part Number: SN5425; Manufacturer: Texas Instruments; PartNumber: SNJ5425J; VCC(Min)(V): 4.5; VCC(Max)(V): 5.5; Output Type: TTL; Bits(#): 2; Rating: Military; tpd @ Nom Voltage(Max)(ns): 22; DatasheetVersion: SDLS082; PackageReference: J0014A; Input Type: TTL; Operating Temperature Range(C): -55 to 125; ComponentLink1Description: Manufacturer URL; ComponentLink1URL: http://www.ti.com/; ComponentLink2Description: Datasheet; ComponentLink2URL: http://www.ti.com/lit/ds/symlink/sn5425.pdf; ComponentLink3Description: Package Specification; ComponentLink3URL: http://www.ti.com/lit/ml/mcer002d/mcer002d.pdf
footprint J0014A (DIP, 14-Leads, Body 19.95x7.2mm, Pitch 2.54mm)
part A pins: 1 1A (in), 2 1B (in), 3 1G (in), 4 1C (in), 5 1D (in), 6 ~{1Y} (out)
part B pins: 8 ~{2Y} (out), 9 2A (in), 10 2B (in), 11 2G (in), 12 2C (in), 13 2D (in)
part C pins: 7 GND (power), 14 VCC (power)

## SNJ5428J
designator U?
Quadruple 2-Input Positive-NOR Buffers, J0014A, TUBE; Generic Part Number: SN5428; Manufacturer: Texas Instruments; PartNumber: SNJ5428J; VCC(Min)(V): 4.5; VCC(Max)(V): 5.5; Output Type: TTL; Bits(#): 4; Rating: Military; tpd @ Nom Voltage(Max)(ns): 18; DatasheetVersion: SDLS094; PackageReference: J0014A; Input Type: TTL; Operating Temperature Range(C): -55 to 125; ComponentLink1Description: Manufacturer URL; ComponentLink1URL: http://www.ti.com/; ComponentLink2Description: Datasheet; ComponentLink2URL: http://www.ti.com/lit/ds/symlink/sn5428.pdf; ComponentLink3Description: Package Specification; ComponentLink3URL: http://www.ti.com/lit/ml/mcer002d/mcer002d.pdf
footprint J0014A (DIP, 14-Leads, Body 19.95x7.2mm, Pitch 2.54mm)
part A pins: 1 1Y (out) "1Y output", 2 1A (in) "1A input", 3 1B (in) "1B input"
part B pins: 4 2Y (out) "2Y output", 5 2A (in) "2A input", 6 2B (in) "2B input"
part C pins: 8 3A (in) "3A input", 9 3B (in) "3B input", 10 3Y (out) "3Y output"
part D pins: 11 4A (in) "4A input", 12 4B (in) "4B input", 13 4Y (out) "4Y output"
part E pins: 7 GND (power), 14 VCC (power)

## SNJ5428W
designator U?
Quadruple 2-Input Positive-NOR Buffers, W0014A, TUBE; Generic Part Number: SN5428; Manufacturer: Texas Instruments; PartNumber: SNJ5428W; VCC(Min)(V): 4.5; VCC(Max)(V): 5.5; Output Type: TTL; Bits(#): 4; Rating: Military; tpd @ Nom Voltage(Max)(ns): 18; DatasheetVersion: SDLS094; PackageReference: W0014A; Input Type: TTL; Operating Temperature Range(C): -55 to 125; ComponentLink1Description: Manufacturer URL; ComponentLink1URL: http://www.ti.com/; ComponentLink2Description: Datasheet; ComponentLink2URL: http://www.ti.com/lit/ds/symlink/sn5428.pdf; ComponentLink3Description: Package Specification; ComponentLink3URL: http://www.ti.com/lit/ml/mcfp002c/mcfp002c.pdf
footprint W0014A_N (CFP, 14-Leads, Body 9.91x6.6mm, Pitch 1.27mm, IPC Medium Density)
footprint W0014A_M (CFP, 14-Leads, Body 9.91x6.6mm, Pitch 1.27mm, IPC Low Density)
footprint W0014A_L (CFP, 14-Leads, Body 9.91x6.6mm, Pitch 1.27mm, IPC High Density)
part A pins: 1 1Y (out) "1Y output", 2 1A (in) "1A input", 3 1B (in) "1B input"
part B pins: 4 2Y (out) "2Y output", 5 2A (in) "2A input", 6 2B (in) "2B input"
part C pins: 8 3A (in) "3A input", 9 3B (in) "3B input", 10 3Y (out) "3Y output"
part D pins: 11 4A (in) "4A input", 12 4B (in) "4B input", 13 4Y (out) "4Y output"
part E pins: 7 GND (power), 14 VCC (power)

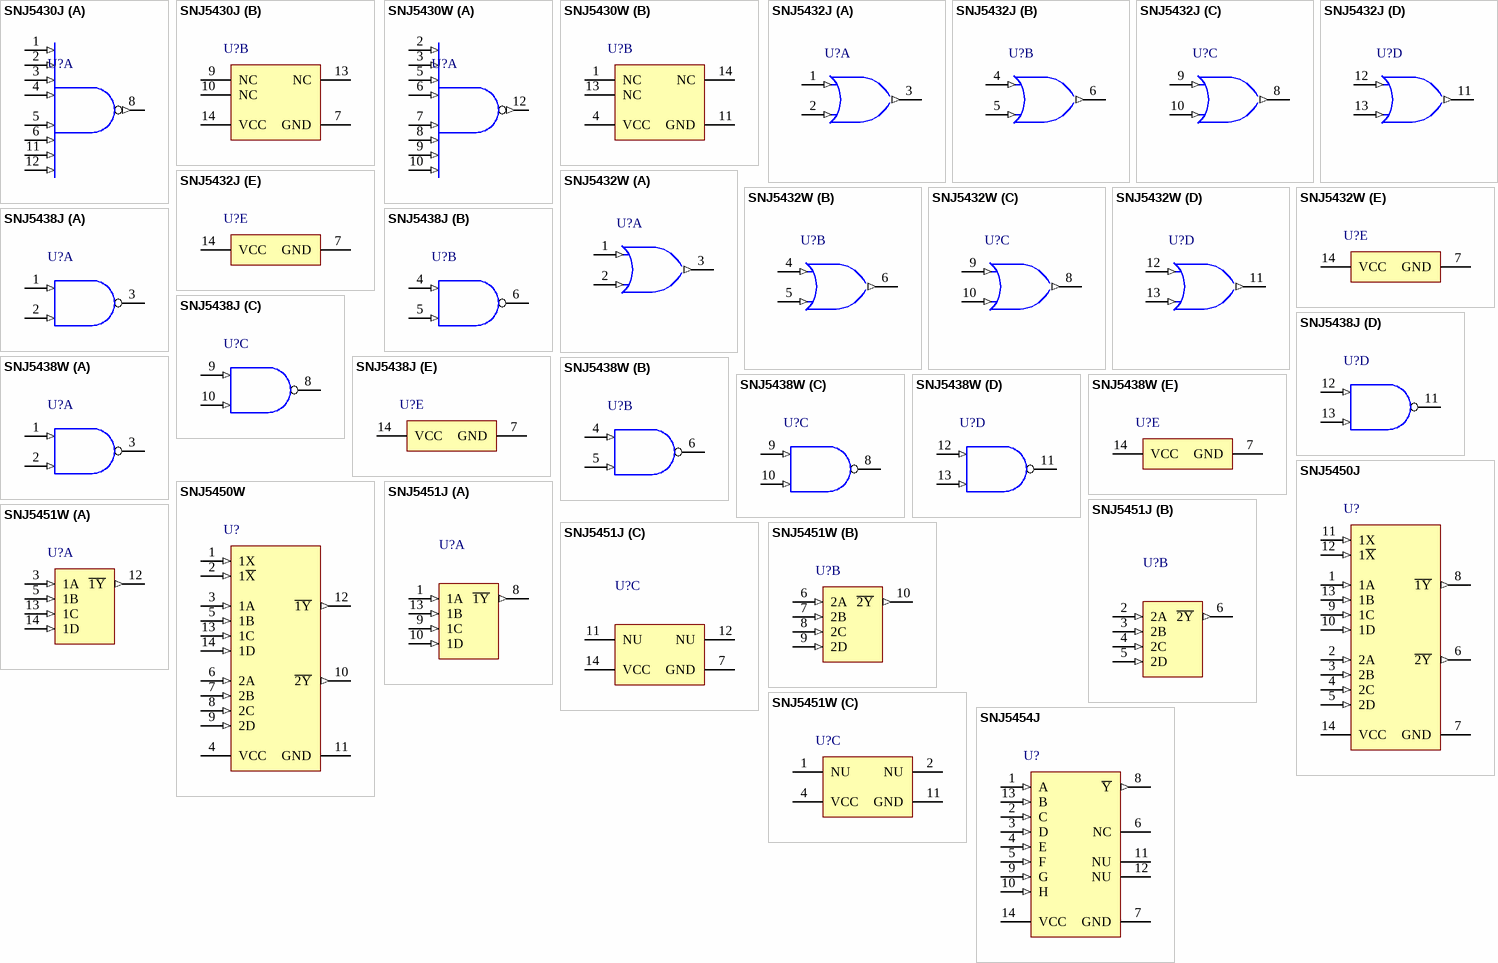
[diagram p226: symbols SNJ5430J to SNJ5454J]

## SNJ5430J
designator U?
8-Input Positive-NAND Gates, J0014A, TUBE; Generic Part Number: SN5430; Manufacturer: Texas Instruments; PartNumber: SNJ5430J; VCC(Min)(V): 4.5; VCC(Max)(V): 5.5; Output Type: TTL; Rating: Military; Schmitt Trigger: No; DatasheetVersion: SDLS099; PackageReference: J0014A; Input Type: TTL; Operating Temperature Range(C): -55 to 125; Technology Family: TTL; ComponentLink1Description: Manufacturer URL; ComponentLink1URL: http://www.ti.com/; ComponentLink2Description: Datasheet; ComponentLink2URL: http://www.ti.com/lit/ds/symlink/sn5430.pdf; ComponentLink3Description: Package Specification; ComponentLink3URL: http://www.ti.com/lit/ml/mcer002d/mcer002d.pdf
footprint J0014A (DIP, 14-Leads, Body 19.95x7.2mm, Pitch 2.54mm)
part A pins: 1 A (in), 2 B (in), 3 C (in), 4 D (in), 5 E (in), 6 F (in), 8 ~{Y} (out), 11 G (in), 12 H (in)
part B pins: 7 GND (power), 9 NC, 10 NC, 13 NC, 14 VCC (power)

## SNJ5430W
designator U?
8-Input Positive-NAND Gates, W0014A, TUBE; Generic Part Number: SN5430; Manufacturer: Texas Instruments; PartNumber: SNJ5430W; VCC(Min)(V): 4.5; VCC(Max)(V): 5.5; Output Type: TTL; Rating: Military; Schmitt Trigger: No; DatasheetVersion: SDLS099; PackageReference: W0014A; Input Type: TTL; Operating Temperature Range(C): -55 to 125; Technology Family: TTL; ComponentLink1Description: Manufacturer URL; ComponentLink1URL: http://www.ti.com/; ComponentLink2Description: Datasheet; ComponentLink2URL: http://www.ti.com/lit/ds/symlink/sn5430.pdf; ComponentLink3Description: Package Specification; ComponentLink3URL: http://www.ti.com/lit/ml/mcfp002c/mcfp002c.pdf
footprint W0014A_N (CFP, 14-Leads, Body 9.91x6.6mm, Pitch 1.27mm, IPC Medium Density)
footprint W0014A_M (CFP, 14-Leads, Body 9.91x6.6mm, Pitch 1.27mm, IPC Low Density)
footprint W0014A_L (CFP, 14-Leads, Body 9.91x6.6mm, Pitch 1.27mm, IPC High Density)
part A pins: 2 A (in), 3 B (in), 5 C (in), 6 D (in), 7 E (in), 8 F (in), 9 G (in), 10 H (in), 12 Y (out)
part B pins: 1 NC, 4 VCC (power), 11 GND (power), 13 NC, 14 NC

## SNJ5432J
designator U?
Quadruple 2-Input Positive-OR Gates, J0014A, TUBE; Generic Part Number: SN5432; Manufacturer: Texas Instruments; PartNumber: SNJ5432J; VCC(Min)(V): 4.5; VCC(Max)(V): 5.5; Output Type: TTL; Bits(#): 4; Rating: Military; tpd @ Nom Voltage(Max)(ns): 22; DatasheetVersion: SDLS100; PackageReference: J0014A; Input Type: TTL; Operating Temperature Range(C): -55 to 125; ComponentLink1Description: Manufacturer URL; ComponentLink1URL: http://www.ti.com/; ComponentLink2Description: Datasheet; ComponentLink2URL: http://www.ti.com/lit/ds/symlink/sn5432.pdf; ComponentLink3Description: Package Specification; ComponentLink3URL: http://www.ti.com/lit/ml/mcer002d/mcer002d.pdf
footprint J0014A (DIP, 14-Leads, Body 19.95x7.2mm, Pitch 2.54mm)
part A pins: 1 1A (in), 2 1B (in), 3 1Y (out)
part B pins: 4 2A (in), 5 2B (in), 6 2Y (out)
part C pins: 8 3Y (out), 9 3A (in), 10 3B (in)
part D pins: 11 4Y (out), 12 4A (in), 13 4B (in)
part E pins: 7 GND (power), 14 VCC (power)

## SNJ5432W
designator U?
Quadruple 2-Input Positive-OR Gates, W0014A, TUBE; Generic Part Number: SN5432; Manufacturer: Texas Instruments; PartNumber: SNJ5432W; VCC(Min)(V): 4.5; VCC(Max)(V): 5.5; Output Type: TTL; Bits(#): 4; Rating: Military; tpd @ Nom Voltage(Max)(ns): 22; DatasheetVersion: SDLS100; PackageReference: W0014A; Input Type: TTL; Operating Temperature Range(C): -55 to 125; ComponentLink1Description: Manufacturer URL; ComponentLink1URL: http://www.ti.com/; ComponentLink2Description: Datasheet; ComponentLink2URL: http://www.ti.com/lit/ds/symlink/sn5432.pdf; ComponentLink3Description: Package Specification; ComponentLink3URL: http://www.ti.com/lit/ml/mcfp002c/mcfp002c.pdf
footprint W0014A_N (CFP, 14-Leads, Body 9.91x6.6mm, Pitch 1.27mm, IPC Medium Density)
footprint W0014A_M (CFP, 14-Leads, Body 9.91x6.6mm, Pitch 1.27mm, IPC Low Density)
footprint W0014A_L (CFP, 14-Leads, Body 9.91x6.6mm, Pitch 1.27mm, IPC High Density)
part A pins: 1 1A (in), 2 1B (in), 3 1Y (out)
part B pins: 4 2A (in), 5 2B (in), 6 2Y (out)
part C pins: 8 3Y (out), 9 3A (in), 10 3B (in)
part D pins: 11 4Y (out), 12 4A (in), 13 4B (in)
part E pins: 7 GND (power), 14 VCC (power)

## SNJ5438J
designator U?
Quadruple 2-Input Positive-NAND Buffers With Open-Collector Outp, J0014A, TUBE; Generic Part Number: SN5438; Manufacturer: Texas Instruments; PartNumber: SNJ5438J; VCC(Min)(V): 4.5; VCC(Max)(V): 5.5; Output Type: TTL; Rating: Military; Schmitt Trigger: No; DatasheetVersion: SDLS105; PackageReference: J0014A; Input Type: TTL; Operating Temperature Range(C): -55 to 125; Technology Family: TTL; ComponentLink1Description: Manufacturer URL; ComponentLink1URL: http://www.ti.com/; ComponentLink2Description: Datasheet; ComponentLink2URL: http://www.ti.com/lit/ds/symlink/sn5438.pdf; ComponentLink3Description: Package Specification; ComponentLink3URL: http://www.ti.com/lit/ml/mcer002d/mcer002d.pdf
footprint J0014A (DIP, 14-Leads, Body 19.95x7.2mm, Pitch 2.54mm)
part A pins: 1 1A (in), 2 1B (in), 3 1Y (oc)
part B pins: 4 2A (in), 5 2B (in), 6 2Y (oc)
part C pins: 8 3Y (oc), 9 3A (in), 10 3B (in)
part D pins: 11 4Y (oc), 12 4A (in), 13 4B (in)
part E pins: 7 GND (power), 14 VCC (power)

## SNJ5438W
designator U?
Quadruple 2-Input Positive-NAND Buffers With Open-Collector Outp, W0014A, TUBE; Generic Part Number: SN5438; Manufacturer: Texas Instruments; PartNumber: SNJ5438W; VCC(Min)(V): 4.5; VCC(Max)(V): 5.5; Output Type: TTL; Rating: Military; Schmitt Trigger: No; DatasheetVersion: SDLS105; PackageReference: W0014A; Input Type: TTL; Operating Temperature Range(C): -55 to 125; Technology Family: TTL; ComponentLink1Description: Manufacturer URL; ComponentLink1URL: http://www.ti.com/; ComponentLink2Description: Datasheet; ComponentLink2URL: http://www.ti.com/lit/ds/symlink/sn5438.pdf; ComponentLink3Description: Package Specification; ComponentLink3URL: http://www.ti.com/lit/ml/mcfp002c/mcfp002c.pdf
footprint W0014A_N (CFP, 14-Leads, Body 9.91x6.6mm, Pitch 1.27mm, IPC Medium Density)
footprint W0014A_M (CFP, 14-Leads, Body 9.91x6.6mm, Pitch 1.27mm, IPC Low Density)
footprint W0014A_L (CFP, 14-Leads, Body 9.91x6.6mm, Pitch 1.27mm, IPC High Density)
part A pins: 1 1A (in), 2 1B (in), 3 1Y (oc)
part B pins: 4 2A (in), 5 2B (in), 6 2Y (oc)
part C pins: 8 3Y (oc), 9 3A (in), 10 3B (in)
part D pins: 11 4Y (oc), 12 4A (in), 13 4B (in)
part E pins: 7 GND (power), 14 VCC (power)

## SNJ5450J
designator U?
Dual 2-Wide 2-Input AND-OR-invert Gates (One Gate Expandable), J0014A, TUBE; Generic Part Number: SN5450; Manufacturer: Texas Instruments; PartNumber: SNJ5450J; VCC(Min)(V): 4.5; VCC(Max)(V): 5.5; Output Type: TTL; Bits(#): 2; Rating: Military; Schmitt Trigger: No; Output Drive (IOL/IOH)(Max)(mA): -0.4/16; tpd @ Nom Voltage(Max)(ns): 22; DatasheetVersion: SDLS112; PackageReference: J0014A; Input Type: TTL; Operating Temperature Range(C): -55 to 125; Technology Family: TTL; ComponentLink1Description: Manufacturer URL; ComponentLink1URL: http://www.ti.com/; ComponentLink2Description: Datasheet; ComponentLink2URL: http://www.ti.com/lit/ds/symlink/sn5450.pdf; ComponentLink3Description: Package Specification; ComponentLink3URL: http://www.ti.com/lit/ml/mcer002d/mcer002d.pdf
footprint J0014A (DIP, 14-Leads, Body 19.95x7.2mm, Pitch 2.54mm)
pins: 1 1A (in), 2 2A (in), 3 2B (in), 4 2C (in), 5 2D (in), 6 ~{2Y} (out), 7 GND (power), 8 ~{1Y} (out), 9 1C (in), 10 1D (in), 11 1X (in), 12 1~{X} (in), 13 1B (in), 14 VCC (power)

## SNJ5450W
designator U?
Dual 2-Wide 2-Input AND-OR-invert Gates (One Gate Expandable), W0014A, TUBE; Generic Part Number: SN5450; Manufacturer: Texas Instruments; PartNumber: SNJ5450W; VCC(Min)(V): 4.5; VCC(Max)(V): 5.5; Output Type: TTL; Bits(#): 2; Rating: Military; Schmitt Trigger: No; Output Drive (IOL/IOH)(Max)(mA): -0.4/16; tpd @ Nom Voltage(Max)(ns): 22; DatasheetVersion: SDLS112; PackageReference: W0014A; Input Type: TTL; Operating Temperature Range(C): -55 to 125; Technology Family: TTL; ComponentLink1Description: Manufacturer URL; ComponentLink1URL: http://www.ti.com/; ComponentLink2Description: Datasheet; ComponentLink2URL: http://www.ti.com/lit/ds/symlink/sn5450.pdf; ComponentLink3Description: Package Specification; ComponentLink3URL: http://www.ti.com/lit/ml/mcfp002c/mcfp002c.pdf
footprint W0014A_N (CFP, 14-Leads, Body 9.91x6.6mm, Pitch 1.27mm, IPC Medium Density)
footprint W0014A_M (CFP, 14-Leads, Body 9.91x6.6mm, Pitch 1.27mm, IPC Low Density)
footprint W0014A_L (CFP, 14-Leads, Body 9.91x6.6mm, Pitch 1.27mm, IPC High Density)
pins: 1 1X (in), 2 1~{X} (in), 3 1A (in), 4 VCC (power), 5 1B (in), 6 2A (in), 7 2B (in), 8 2C (in), 9 2D (in), 10 ~{2Y} (out), 11 GND (power), 12 ~{1Y} (out), 13 1C (in), 14 1D (in)

## SNJ5451J
designator U?
AND-OR-invert Gates, J0014A, TUBE; Generic Part Number: SN5451; Manufacturer: Texas Instruments; PartNumber: SNJ5451J; VCC(Min)(V): 4.5; VCC(Max)(V): 5.5; Output Type: TTL; Bits(#): 2; Rating: Military; Schmitt Trigger: No; Output Drive (IOL/IOH)(Max)(mA): -0.4/16; tpd @ Nom Voltage(Max)(ns): 22; DatasheetVersion: SDLS113; PackageReference: J0014A; Input Type: TTL; Operating Temperature Range(C): -55 to 125; Technology Family: TTL; ComponentLink1Description: Manufacturer URL; ComponentLink1URL: http://www.ti.com/; ComponentLink2Description: Datasheet; ComponentLink2URL: http://www.ti.com/lit/ds/symlink/sn5451.pdf; ComponentLink3Description: Package Specification; ComponentLink3URL: http://www.ti.com/lit/ml/mcer002d/mcer002d.pdf
footprint J0014A (DIP, 14-Leads, Body 19.95x7.2mm, Pitch 2.54mm)
part A pins: 1 1A (in), 8 ~{1Y} (out), 9 1C (in), 10 1D (in), 13 1B (in)
part B pins: 2 2A (in), 3 2B (in), 4 2C (in), 5 2D (in), 6 ~{2Y} (out)
part C pins: 7 GND (power), 11 NU, 12 NU, 14 VCC (power)

## SNJ5451W
designator U?
AND-OR-invert Gates, W0014A, TUBE; Generic Part Number: SN5451; Manufacturer: Texas Instruments; PartNumber: SNJ5451W; VCC(Min)(V): 4.5; VCC(Max)(V): 5.5; Output Type: TTL; Bits(#): 2; Rating: Military; Schmitt Trigger: No; Output Drive (IOL/IOH)(Max)(mA): -0.4/16; tpd @ Nom Voltage(Max)(ns): 22; DatasheetVersion: SDLS113; PackageReference: W0014A; Input Type: TTL; Operating Temperature Range(C): -55 to 125; Technology Family: TTL; ComponentLink1Description: Manufacturer URL; ComponentLink1URL: http://www.ti.com/; ComponentLink2Description: Datasheet; ComponentLink2URL: http://www.ti.com/lit/ds/symlink/sn5451.pdf; ComponentLink3Description: Package Specification; ComponentLink3URL: http://www.ti.com/lit/ml/mcfp002c/mcfp002c.pdf
footprint W0014A_N (CFP, 14-Leads, Body 9.91x6.6mm, Pitch 1.27mm, IPC Medium Density)
footprint W0014A_M (CFP, 14-Leads, Body 9.91x6.6mm, Pitch 1.27mm, IPC Low Density)
footprint W0014A_L (CFP, 14-Leads, Body 9.91x6.6mm, Pitch 1.27mm, IPC High Density)
part A pins: 3 1A (in), 5 1B (in), 12 ~{1Y} (out), 13 1C (in), 14 1D (in)
part B pins: 6 2A (in), 7 2B (in), 8 2C (in), 9 2D (in), 10 ~{2Y} (out)
part C pins: 1 NU, 2 NU, 4 VCC (power), 11 GND (power)